# Altium schematic symbol library AWM634RX-RSSI.SchLib: 1 symbol
Pins are listed as number, name and electrical type; pins without a type are passive.

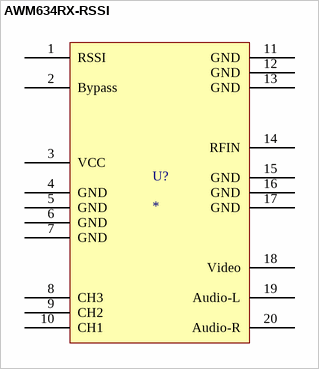
[diagram p0: symbol AWM634RX-RSSI]

## AWM634RX-RSSI
designator U?
Manufacturer: Airwave; Part No.: AWM634RX-RSSI; Vendor: DPCAV; Price Est.: $24.35
pins: 1 RSSI, 2 Bypass, 3 VCC, 4 GND, 5 GND, 6 GND, 7 GND, 8 CH3, 9 CH2, 10 CH1, 11 GND, 12 GND, 13 GND, 14 RFIN, 15 GND, 16 GND, 17 GND, 18 Video, 19 Audio-L, 20 Audio-R